# Altium footprint library SparkFun-Capacitors.PCBLIB: 14 footprints
Each footprint in its own frame and in the unit in brackets; x right, y up, seen from the top. Pads: shape width x height; smd on the part's side, far side on the other; paste and mask are expansions set on the pad; w line width, h text height; cw(c..) or ccw(c..) is an arc to the next point about the centre after c.
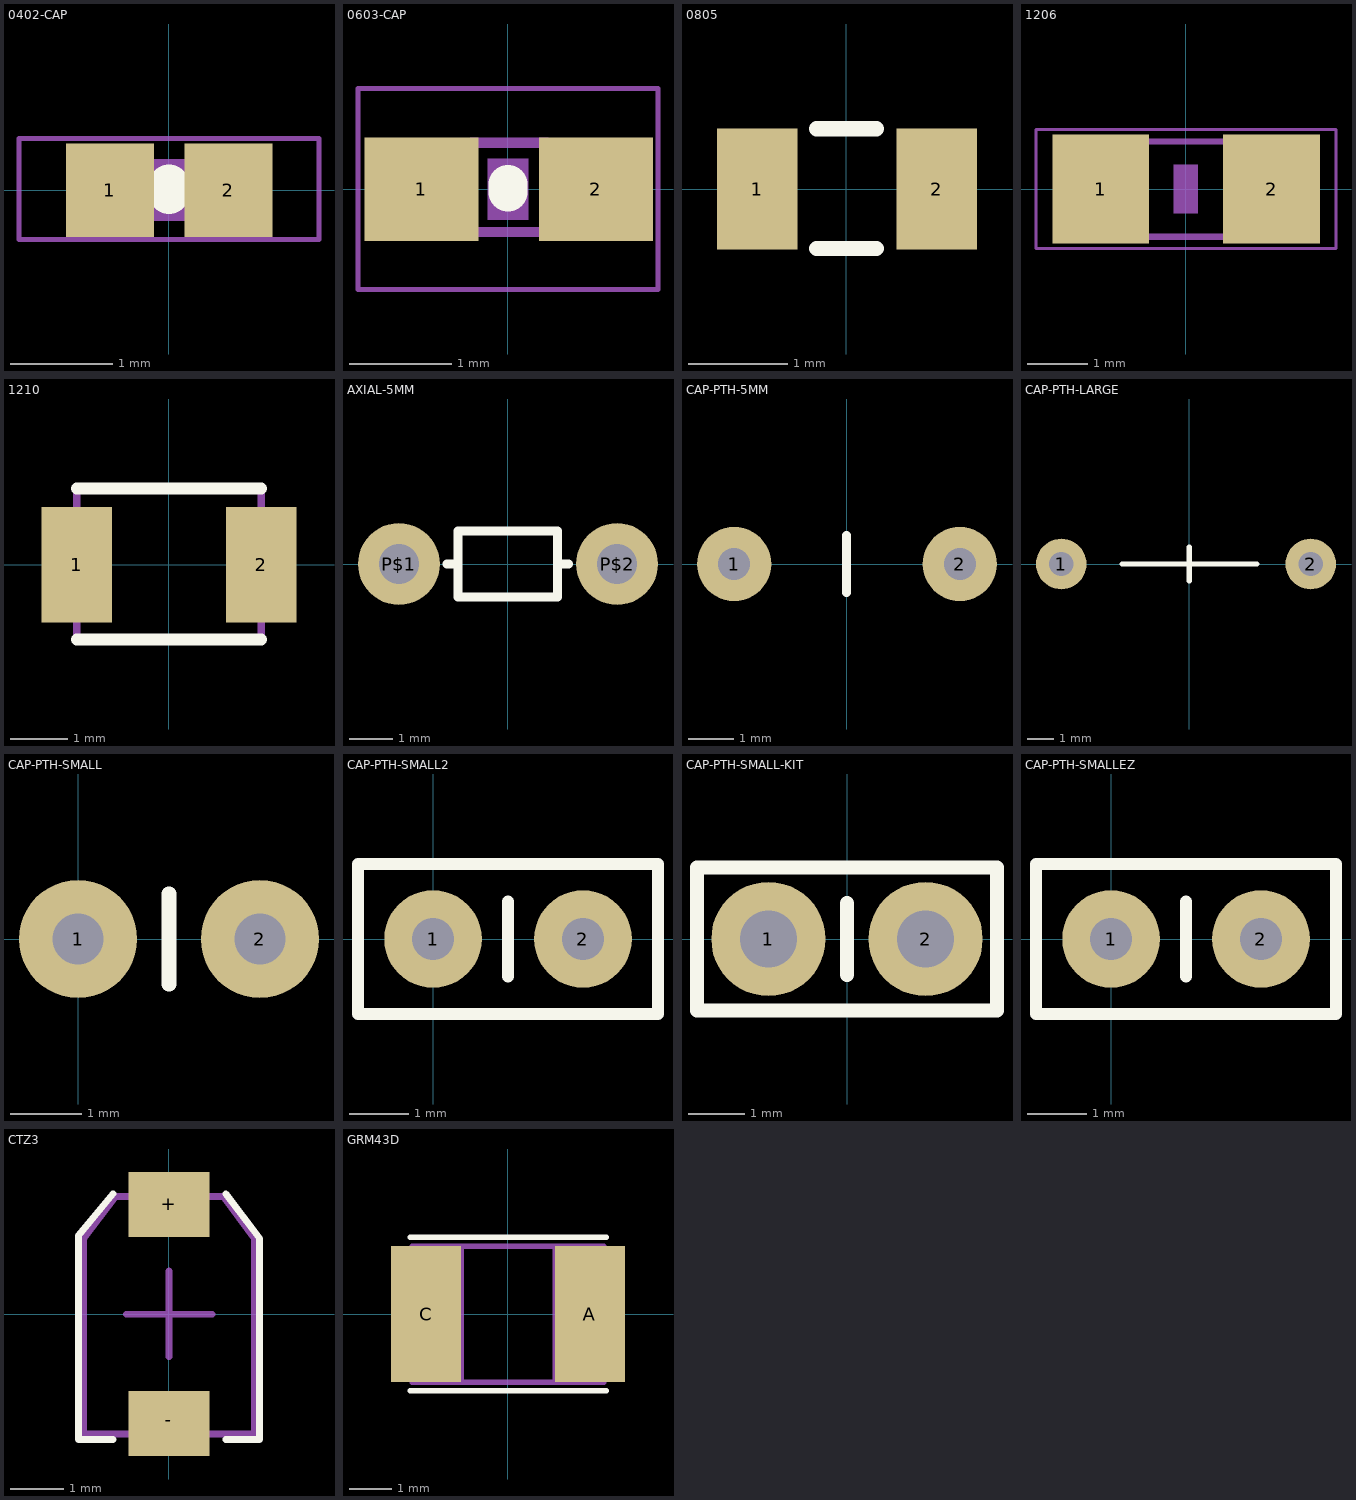
[diagram p0: the footprints below, top view; thin cyan lines are the x and y axes]

## 0402-CAP [mil]
pads (2):
  rect 34x36 smd: 1(-22.83,0) 2(23,0)
Top Overlay:
  lines w16: 0,-1.2 0,2
Mechanical 6:
  rectangle: -7.87,-11.81 8,12
Mechanical 16:
  rectangle: -21.81,-12 -10,12
  rectangle: 11,-12 22,12
  lines w6: -9.65,-8.82 10,-8.82 ; -9.65,9 10,9
Mechanical 27:
  lines w2: -57.99,-19.02 58,-19.02 58,20 -57.99,20 -57.99,-19.02

## 0603-CAP [mil]
pads (2):
  rect 44x40 smd: 1(-33.46,0) 2(34,0)
Top Overlay:
  lines w15: 0,-1.1 0,2
Mechanical 6:
  rectangle: -7.87,-11.81 8,12
Mechanical 16:
  rectangle: -33,-18.5 -13.31,19
  rectangle: 13,-18.5 33,19
  lines w4: -14.02,-16.5 15,-16.5 ; -14.02,18 15,18
Mechanical 27:
  lines w2: -57.99,-38.7 58,-38.7 58,39 -57.99,39 -57.99,-38.7

## 0805 [mil]
pads (2):
  rect 32x48 smd: 1(-35.43,0) 2(36,0)
Top Overlay:
  lines w6: -11.81,-23.62 12,-23.62 ; -11.81,24 12,24

## 1206 [mil]
pads (2):
  rect 63x71 smd: 1(-55.12,0) 2(56,0)
Mechanical 6:
  rectangle: -7.87,-15.75 8,16
Mechanical 16:
  rectangle: -67,-33.5 -37.47,34
  rectangle: 38,-33.43 67,34
  lines w4: -37.99,-30.98 38,-30.98 ; -37.99,31 38,31
Mechanical 27:
  lines w2: -97.36,-38.7 98,-38.7 98,39 -97.36,39 -97.36,-38.7

## 1210 [mil]
pads (2):
  rect 48x79 smd: 1(-62.99,0) 2(63,0)
Top Overlay:
  lines w8: -62.99,-51.18 63,-51.18 ; -62.99,52 63,52
Mechanical 16:
  lines w5: -62.99,-51.18 63,-51.18 63,52 -62.99,52 -62.99,-51.18

## AXIAL-5MM [mil]
pads (2):
  round 74 hole 36: P$1(-98.43,0) P$2(99,0)
Top Overlay:
  lines w8: -54.88,0 -44.88,0 ; 55,0 45,0 ; -44.88,0 -44.88,-30 45,-30 45,0 ; -44.88,0 -44.88,30 45,30 45,0

## CAP-PTH-5MM [mil]
pads (2):
  round 65 hole 28: 1(-98.43,0) 2(99,0)
Top Overlay:
  lines w8: 0,-25 0,25

## CAP-PTH-LARGE [mil]
pads (2):
  round 75 hole 36: 1(-190,0) 2(180,0)
Top Overlay:
  lines w8: -100,0 0,0 ; 0,-25 0,0 ; 0,25 0,0 ; 100,0 0,0

## CAP-PTH-SMALL [mil]
pads (2):
  round 65 hole 28: 1(0,0) 2(100,0)
Top Overlay:
  lines w8: 50,-25 50,25

## CAP-PTH-SMALL2 [mil]
pads (2):
  round 65 hole 28: 1(0,0) 2(100,0)
Top Overlay:
  lines w8: 50,-25 50,25 ; -50,-50 150,-50 150,50 -50,50 -50,-50

## CAP-PTH-SMALL-KIT [mil]
pads (2):
  round 80 hole 40: 1(-55,0) 2(55,0)
Top Overlay:
  lines w10: 0,-25 0,25 ; -105,-50 105,-50 105,50 -105,50 -105,-50
Top Solder:
  region: 0,0 10,0 10,10 0,10
  region: 0,0 10,0 10,10 0,10
Bottom Solder:
  region: 0,0 10,0 10,10 0,10
  region: 0,0 10,0 10,10 0,10

## CAP-PTH-SMALLEZ [mil]
pads (2):
  round 65 hole 28: 1(0,0) 2(100,0)
Top Overlay:
  lines w8: 50,-25 50,25 ; -50,-50 150,-50 150,50 -50,50 -50,-50
Top Solder:
  circle w0: c0,0 r16
  circle w0: c100,0 r16
Bottom Solder:
  circle w0: c0,0 r36
  circle w0: c100,0 r37

## CTZ3 [mil]
pads (2):
  rect 60x48 smd: +(0,81) -(0,-80.71)
Top Overlay:
  lines w5: -41.34,-92.52 -66.93,-92.52 -66.93,58 -41.34,89 ; 42,-92.52 67,-92.52 67,56 42,89
Mechanical 16:
  lines w5: -31.5,0 32,0 ; -19.68,0 20,0 ; 0,-31.5 0,32 ; -62.99,-88.58 -62.99,56 -39.37,87 40,87 63,56 63,-88.58 -62.99,-88.58

## GRM43D [mil]
pads (2):
  rect 65x126 smd: A(76,0) C(-75.87,0)
Top Overlay:
  lines w5: -90.55,-70.87 91,-70.87 ; -90.55,71 91,71
Mechanical 16:
  rectangle: -86.61,-62.99 -43.31,63
  rectangle: 44,-62.99 87,63
  lines w5: -43.31,-62.99 -88.58,-62.99 -88.58,63 -43.31,63 ; -43.31,-62.99 44,-62.99 ; -43.31,-62.99 -43.31,63 ; -43.31,63 44,63 ; 44,-62.99 89,-62.99 89,63 44,63 ; 44,-62.99 44,63